# Altium footprint library CANDLE-LIB.PcbLib: 28 footprints (part 1 of 2)
Each footprint in its own frame and in the unit in brackets; x right, y up, seen from the top. Pads: shape width x height; smd on the part's side, far side on the other; paste and mask are expansions set on the pad; w line width, h text height; cw(c..) or ccw(c..) is an arc to the next point about the centre after c.
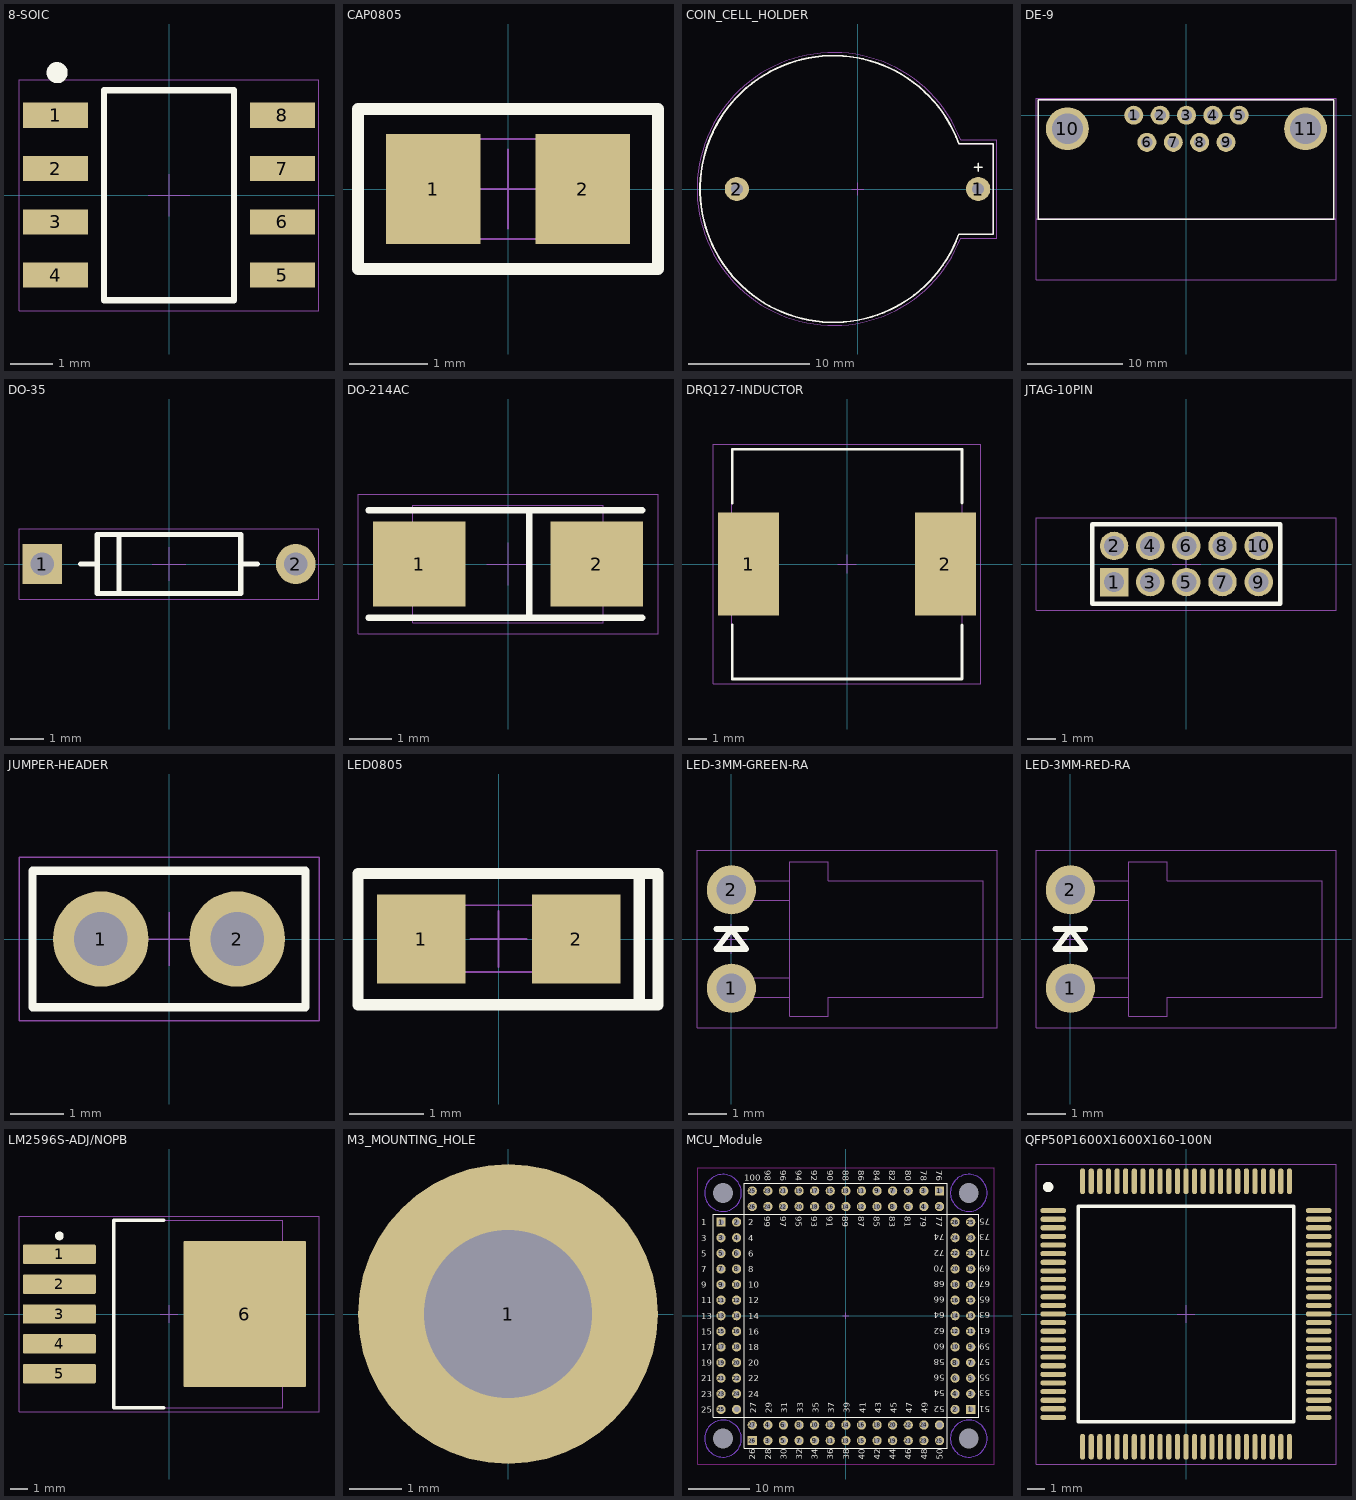
[diagram p0: the footprints below, top view; thin cyan lines are the x and y axes]

## 8-SOIC [mm]
pads (8):
  rect 1.55x0.6 smd: 1(-2.7,1.905) 2(-2.7,0.635) 3(-2.7,-0.635) 4(-2.7,-1.905) 5(2.7,-1.905) 6(2.7,-0.635) 7(2.7,0.635) 8(2.7,1.905)
Top Overlay:
  circle w0.25: c-2.667,2.921 r0.125
  lines w0.152: -1.55,-2.5 1.55,-2.5 1.55,2.5 -1.55,2.5 -1.55,-2.5
Top Courtyard:
  lines w0.025: -3.575,-2.75 -3.575,2.75 ; -3.575,-2.75 3.575,-2.75 ; -3.575,-2.75 3.575,-2.75 ; -3.575,-2.75 -3.575,2.75 ; -3.575,2.75 3.575,2.75 ; -3.575,2.75 3.575,2.75 ; 3.575,-2.75 3.575,2.75 ; 3.575,-2.75 3.575,2.75
Top Designator:
  text ".Designator" at -2.252,-0.226 h1
Top Assembly:
  lines w0.025: -0.5,0 0.5,0 ; 0,-0.5 0,0.5 ; -1.55,-2.5 -1.55,2.5 1.55,2.5 1.55,-2.5 -1.55,-2.5
3D body "IC_Microchip_PIC16F15313T-I-SN_eec.STEP": height 0.25, standoff 0, extent -3.575,-2.75 3.575,2.75

## CAP0805 [mm] "Pasivo 0805"
height 0.7
pads (2):
  rect 1.2x1.4 smd: 1(-0.95,0) 2(0.95,0)
Top Overlay:
  lines w0.152: -1.905,-1.016 1.905,-1.016 1.905,1.016 -1.905,1.016 -1.905,-1.016
Top Courtyard:
  lines w0.025: -1.905,-1.016 -1.905,1.016 1.905,1.016 1.905,-1.016 -1.905,-1.016
Top Designator:
  text ".Designator" at -1.714,-0.172 h0.76
Top Assembly:
  lines w0.025: -0.5,0 0.5,0 ; 0,-0.5 0,0.5 ; -1.016,-0.635 1.009,-0.635 1.009,0.635 -1.016,0.635 -1.016,-0.635
3D body "User Library-Chip Cap_MLCC_0805 (2012)_B.step": height 0.8, standoff 0, extent -1,-0.63 1,0.62

## COIN_CELL_HOLDER [mm] "BH-25C-1"
pads (2):
  round 2 hole 1: 1(10,0) 2(-10,0)
Top Overlay:
  lines w0.152: 9.7,1.8 10.3,1.8 ; 10,1.5 10,2.1 ; 11.25,-3.75 11.25,3.75 ; 11.25,-3.75 8.396,-3.75 11.25,-3.75 ; 11.25,-3.75 11.25,3.75 ; 11.25,3.75 8.383,3.75 11.25,3.75 ; 8.383,3.78 ccw(c-2,0) 8.394,-3.749 cw(c-2,0) 8.383,3.78
Top Courtyard:
  lines w0.025: 8.548,-4.064 cw(c-2,0) 8.548,4.064 11.557,4.064 11.557,-4.064 8.548,-4.064
Top Designator:
  text ".Designator" at -3.434,-0.345 h1.52
Top Assembly:
  lines w0.025: 11.25,-3.75 8.396,-3.75 11.25,-3.75 ; 11.25,-3.75 11.25,3.75 ; 11.25,-3.75 11.25,3.75 ; 11.25,3.75 8.383,3.75 11.25,3.75 ; 8.383,3.78 ccw(c-2,0) 8.394,-3.749 cw(c-2,0) 8.383,3.78
  lines w0.1: -0.5,0 0.5,0 ; 0,-0.5 0,0.5
3D body "XB-02-A1AK001.step": height 8.77, standoff -4.2, extent -13.05,-11.05 11.25,11.05

## DE-9 [mm]
pads (11):
  round 2 hole 1.2: 1(-5.537,0) 2(-2.769,0) 3(0,0) 4(2.769,0) 5(5.537,0) 6(-4.153,-2.845) 7(-1.384,-2.845) 8(1.384,-2.845) 9(4.153,-2.845)
  round 4.5 hole 3.25 unplated: 10(-12.497,-1.422) 11(12.497,-1.422)
Top Overlay:
  lines w0.152: -15.545,-10.922 -15.545,1.6 15.443,1.6 15.443,-10.922 -15.545,-10.922
Top Courtyard:
  lines w0.025: -15.799,-17.272 15.697,-17.272 15.697,1.778 -15.799,1.778 -15.799,-17.272
  lines w0.152: -15.799,-10.922 15.697,-10.922
Top Designator:
  text ".Designator" at -3.434,-0.345 h1.52
Top Assembly:
  lines w0.025: -15.545,-10.922 -15.545,1.6 15.443,1.6 15.443,-10.922 -15.545,-10.922
  lines w0.1: -0.5,0 0.5,0 ; 0,-0.5 0,0.5
3D body "182-009-113.STEP": height 12.55, standoff -3.17, extent -15.456,-16.967 15.354,1.524

## DO-35 [mm]
pads (2):
  rect 1.2x1.2 hole 0.7: 1(-3.813,0)
  round 1.2 hole 0.7: 2(3.813,0)
Top Overlay:
  lines w0.152: -2.667,0 -2.159,0 ; -1.5,-0.855 -1.5,0.855 ; 2.159,0 2.667,0 ; -2.159,-0.889 2.159,-0.889 2.159,0.889 -2.159,0.889 -2.159,-0.889
Top Courtyard:
  lines w0.025: -4.513,-1.055 4.513,-1.055 4.513,1.055 -4.513,1.055 -4.513,-1.055
Top Designator:
  text ".Designator" at -2.252,-0.226 h1
Top Assembly:
  lines w0.025: -0.5,0 0.5,0 ; 0,-0.5 0,0.5 ; -2.159,-0.889 -2.159,0.889 ; -2.159,-0.889 -2.159,0.889 ; -2.159,-0.889 2.159,-0.889 2.159,0.889 -2.159,0.889
3D body "Diode_ON_Semiconductor_1N5245BTR_eec.STEP": height 0.25, standoff 0, extent -4.513,-1.055 4.513,1.055

## DO-214AC [mm] "DO-214AC, 2-Leads, Body 4.5x2.79mm, IPC Low Density"
height 2.29
pads (2):
  rect 2.2x2 smd: 1(-2.1,0) 2(2.1,0)
Top Overlay:
  lines w0.152: -3.302,-1.27 3.175,-1.27 ; -3.302,1.27 3.175,1.27 ; 0.508,-1.27 0.508,1.27
Top Courtyard:
  lines w0.025: -3.55,-1.651 -3.55,1.651 3.55,1.651 3.55,-1.651 -3.55,-1.651
Top Designator:
  text ".Designator" at -1.714,-0.172 h0.76
Top Assembly:
  lines w0.025: -0.5,0 0.5,0 ; 0,-0.5 0,0.5 ; -2.25,-1.395 -2.25,1.395 2.25,1.395 2.25,-1.395 -2.25,-1.395
3D body: height 2.29, standoff 0, extent -2.25,-1.395 2.25,1.395

## DRQ127-INDUCTOR [mil]
pads (2):
  rect 130x220 smd: 1(-210,0) 2(210,0)
Top Overlay:
  lines w6: -245,-130 -245,-245 245,-245 245,-130 ; -245,130 -245,245 245,245 245,130
Top Courtyard:
  lines w1: -285,-255 285,-255 285,255 -285,255 -285,-255
Top Designator:
  text ".Designator" at -135.2,-13.57 h60
Top Assembly:
  lines w1: -19.68,0 19.68,0 ; 0,-19.69 0,19.68 ; -246.07,-246.06 -246.07,246.07 246.06,246.07 246.06,-246.06 -246.07,-246.06
3D body "User Library-DRQ127_12_5x12_5.step": height 316.28, standoff 1.31, extent -246.07,-246.06 246.06,246.07

## JTAG-10PIN [mm] "10 pin JTAG header with male connector"
pads (10):
  rect 1x1 hole 0.7: 1(-2.54,-0.635)
  round 1 hole 0.7: 2(-2.54,0.635) 3(-1.27,-0.635) 4(-1.27,0.635) 5(0,-0.635) 6(0,0.635) 7(1.27,-0.635) 8(1.27,0.635) 9(2.54,-0.635) 10(2.54,0.635)
Top Overlay:
  lines w0.152: -3.302,-1.397 3.302,-1.397 3.302,1.397 -3.302,1.397 -3.302,-1.397
Top Courtyard:
  lines w0.025: -5.282,-1.625 5.258,-1.625 5.258,1.625 -5.282,1.625 -5.282,-1.625
Top Designator:
  text ".Designator" at -1.714,-0.187 h0.76
Top Assembly:
  lines w0.025: -0.5,-0.015 0.5,-0.015 ; 0,-0.515 0,0.485 ; -3.302,-1.397 -3.302,1.397 3.302,1.397 3.302,-1.397 -3.302,-1.397
3D body "2x5_50mils.step": height 5.48, standoff -2.17, extent -5.282,-1.625 5.258,1.625

## JUMPER-HEADER [mil]
pads (2):
  round 70 hole 39.37: 1(-50,0) 2(50,0)
Top Overlay:
  lines w6: -100,-50 100,-50 100,50 -100,50 -100,-50
Top Courtyard:
  lines w1: -110,-60 110,-60 110,60 -110,60 -110,-60
Top Designator:
  text ".Designator" at -88.67,-8.9 h39.37
Top Assembly:
  lines w1: -19.68,0 19.68,0 ; 0,-19.69 0,19.68 ; -100,-50 100,-50 100,50 -100,50 -100,-50
3D body "User Library-Mini Jumper.step": height 635.83, standoff 104.33, extent -99.41,-50 99.41,44.1
3D body "User Library-HEADER 1x1 Pitch 2_54x2_54.step": height 329.92, standoff -114.96, extent 0,-50 100,50
3D body "User Library-HEADER 1x1 Pitch 2_54x2_54.step": height 329.92, standoff -114.96, extent -100,-50 0,50

## LED0805 [mm] "LED SMD 0805"
height 0.7
pads (2):
  rect 1.2x1.2 smd: 1(-1.05,0) 2(1.05,0)
Top Overlay:
  lines w0.152: 1.905,-0.889 2.159,-0.889 2.159,0.889 1.905,0.889 ; 1.905,-0.889 1.905,0.889 ; 1.905,-0.889 -1.905,-0.889 -1.905,0.889 1.905,0.889
Top Courtyard:
  lines w0.025: -1.905,-0.889 -1.905,0.889 1.905,0.889 1.905,-0.889 -1.905,-0.889
Top Designator:
  text ".Designator" at -1.714,-0.172 h0.76
Top Assembly:
  lines w0.025: -0.381,0 0.381,0 ; 0,-0.381 0,0.381 ; -1.031,-0.449 -1.031,0.457 1.031,0.457 1.031,-0.449 -1.031,-0.449
3D body "LED0805.step": height 0.85, standoff 0.01, extent -1.031,-0.449 1.031,0.457

## LED-3MM-GREEN-RA [mil] "LED 3mm Right Angle"
pads (2):
  round 50 hole 30 mask+0: 1(0,-50) 2(0,50)
Top Overlay:
  lines w6: -15,10 15,10 ; -15,-10 0,10 15,-10 -15,-10
Top Courtyard:
  lines w1: -35,-90 -35,90 270,90 270,-90 -35,-90
Top Designator:
  text ".Designator" at -67.48,-6.77 h30
Top Assembly:
  lines w1: -15,0 15,0 ; 0,-15 0,15 ; 59.06,-59.06 -9.84,-59.06 -9.84,-39.37 59.06,-39.37 ; 59.06,39.37 -9.84,39.37 -9.84,59.06 59.06,59.06 ; 59.06,-78.74 98.43,-78.74 98.43,-59.06 255.91,-59.06 255.91,59.06 98.43,59.06 98.43,78.74 59.06,78.74 59.06,-78.74
3D body "LED_3mm_clear_recentered.stp": height 0, standoff 0, extent 335,-15 335,-15
3D body "LED_3mm_green.step": height 164.73, standoff -71.49, extent -9.56,-78.74 256.19,78.74

## LED-3MM-RED-RA [mil] "LED 3mm Right Angle"
pads (2):
  round 50 hole 30 mask+0: 1(0,-50) 2(0,50)
Top Overlay:
  lines w6: -15,10 15,10 ; -15,-10 15,-10 0,10 -15,-10
Top Courtyard:
  lines w1: -35,-90 270,-90 270,90 -35,90 -35,-90
Top Designator:
  text ".Designator" at -67.48,-6.77 h30
Top Assembly:
  lines w1: -15,0 15,0 ; 0,-15 0,15 ; 59.06,-59.06 -9.84,-59.06 -9.84,-39.37 59.06,-39.37 ; 59.06,39.37 -9.84,39.37 -9.84,59.06 59.06,59.06 ; 59.06,-78.74 59.06,78.74 98.43,78.74 98.43,59.06 255.91,59.06 255.91,-59.06 98.43,-59.06 98.43,-78.74 59.06,-78.74
3D body "LED_3mm_clear_recentered.stp": height 0, standoff 0, extent 335,-15 335,-15
3D body "LED_3mm_red.step": height 164.73, standoff -71.49, extent -9.56,-78.74 256.19,78.74

## LM2596S-ADJ/NOPB [mm] "DPAK, 5-Leads, Body 10.65x9.65mm, Pitch 1.7mm, IPC Medium Density"
height 4.83
pads (6):
  rrect10% 4.15x1.1 smd: 1(-6.25,3.4) 2(-6.25,1.7) 3(-6.25,0) 4(-6.25,-1.7) 5(-6.25,-3.4)
  rrect2% 7x8.33 smd: 6(4.318,0)
Top Overlay:
  circle w0.25: c-6.25,4.45 r0.125
  lines w0.2: -0.3,-5.35 -3.15,-5.35 -3.15,5.35 -0.3,5.35
Top Courtyard:
  lines w0.025: -8.55,-5.575 8.55,-5.575 8.55,5.575 -8.55,5.575 -8.55,-5.575
Top Designator:
  text ".Designator" at -3.434,-0.345 h1.52
Top Assembly:
  lines w0.025: -0.5,0 0.5,0 ; 0,-0.5 0,0.5 ; -3.175,-5.334 6.477,-5.334 6.477,5.334 -3.175,5.334 -3.175,-5.334
3D body: height 4.83, standoff 0, extent -3.15,-5.325 6.5,5.325

## M3_MOUNTING_HOLE [mm]
pads (1):
  round 5.7 hole 3.2: 1(0,0)

## MCU_Module [mm]
pads (108):
  round 0 hole 3.25: 0(-20,-20) 0(-20,20) 0(20,-20) 0(20,20)
  rect 1.5x1.5 hole 0.9: 1(-20.32,15.24) 1(15.24,20.32) 1(20.32,-15.24) 26(-15.24,-20.32)
  round 1.5 hole 0.9: 2(-17.78,15.24) 2(15.24,17.78) 2(17.78,-15.24) 3(-20.32,12.7) 3(-12.7,-20.32) 3(12.7,20.32) 3(20.32,-12.7) 4(-17.78,12.7) 4(-12.7,-17.78) 4(12.7,17.78) 4(17.78,-12.7) 5(-20.32,10.16) 5(-10.16,-20.32) 5(10.16,20.32) 5(20.32,-10.16) 6(-17.78,10.16) 6(-10.16,-17.78) 6(10.16,17.78) 6(17.78,-10.16) 7(-20.32,7.62) 7(-7.62,-20.32) 7(7.62,20.32) 7(20.32,-7.62) 8(-17.78,7.62) 8(-7.62,-17.78) 8(7.62,17.78) 8(17.78,-7.62) 9(-20.32,5.08) 9(-5.08,-20.32) 9(5.08,20.32) 9(20.32,-5.08) 10(-17.78,5.08) 10(-5.08,-17.78) 10(5.08,17.78) 10(17.78,-5.08) 11(-20.32,2.54) 11(-2.54,-20.32) 11(2.54,20.32) 11(20.32,-2.54) 12(-17.78,2.54) 12(-2.54,-17.78) 12(2.54,17.78) 12(17.78,-2.54) 13(-20.32,0) 13(0,-20.32) 13(0,20.32) 13(20.32,0) 14(-17.78,0) 14(0,-17.78) 14(0,17.78) 14(17.78,0) 15(-20.32,-2.54) 15(-2.54,20.32) 15(2.54,-20.32) 15(20.32,2.54) 16(-17.78,-2.54) 16(-2.54,17.78) 16(2.54,-17.78) 16(17.78,2.54) 17(-20.32,-5.08) 17(-5.08,20.32) 17(5.08,-20.32) 17(20.32,5.08) 18(-17.78,-5.08) 18(-5.08,17.78) 18(5.08,-17.78) 18(17.78,5.08) 19(-20.32,-7.62) 19(-7.62,20.32) 19(7.62,-20.32) 19(20.32,7.62) 20(-17.78,-7.62) 20(-7.62,17.78) 20(7.62,-17.78) 20(17.78,7.62) 21(-20.32,-10.16) 21(-10.16,20.32) 21(10.16,-20.32) 21(20.32,10.16) 22(-17.78,-10.16) 22(-10.16,17.78) 22(10.16,-17.78) 22(17.78,10.16) 23(-20.32,-12.7) 23(-12.7,20.32) 23(12.7,-20.32) 23(20.32,12.7) 24(-17.78,-12.7) 24(-12.7,17.78) 24(12.7,-17.78) 24(17.78,12.7) 25(-20.32,-15.24) 25(-15.24,20.32) 25(15.24,-20.32) 25(20.32,15.24) 26(-15.24,17.78) 26(17.78,15.24) 27(-15.24,-17.78) ""(-17.78,-15.24) ""(15.24,-17.78)
Bottom Layer keep-out:
  circle w0.15: c20,-20 r3
  circle w0.15: c20,20 r3
  circle w0.15: c-20,20 r3
  circle w0.15: c-20,-20 r3
Top Overlay:
  lines w0.2: -16.51,-16.51 -21.59,-16.51 -21.59,16.51 -16.51,16.51 ; -16.51,-16.51 -16.51,16.51 ; -16.51,-16.51 -16.51,-21.59 16.51,-21.59 16.51,-16.51 ; -16.51,-16.51 16.51,-16.51 ; -16.51,16.51 -16.51,21.59 16.51,21.59 16.51,16.51 ; -16.51,16.51 16.51,16.51 ; 16.51,-16.51 21.59,-16.51 21.59,16.51 16.51,16.51 ; 16.51,-16.51 16.51,16.51
  text "49" at 13.36,-15.9 h1
  text "47" at 10.82,-15.9 h1
  text "50" at 15.76,-23.4 h1
  text "48" at 13.22,-23.4 h1
  text "46" at 10.68,-23.4 h1
  text "45" at 8.28,-15.9 h1
  text "44" at 8.14,-23.4 h1
  text "43" at 5.74,-15.9 h1
  text "42" at 5.6,-23.4 h1
  text "41" at 3.2,-15.9 h1
  text "40" at 3.06,-23.4 h1
  text "39" at 0.66,-15.9 h1
  text "38" at 0.52,-23.4 h1
  text "37" at -1.88,-15.9 h1
  text "36" at -2.02,-23.4 h1
  text "35" at -4.42,-15.9 h1
  text "34" at -4.56,-23.4 h1
  text "33" at -6.96,-15.9 h1
  text "32" at -7.1,-23.4 h1
  text "31" at -9.5,-15.9 h1
  text "30" at -9.64,-23.4 h1
  text "28" at -12.18,-23.4 h1
  text "27" at -14.58,-15.9 h1
  text "1" at -23.5,14.7 h1
  text "25" at -23.5,-15.78 h1
  text "24" at -15.9,-13.24 h1
  text "23" at -23.5,-13.24 h1
  text "22" at -15.9,-10.7 h1
  text "21" at -23.5,-10.7 h1
  text "20" at -15.9,-8.16 h1
  text "19" at -23.5,-8.16 h1
  text "18" at -15.9,-5.62 h1
  text "17" at -23.5,-5.62 h1
  text "16" at -15.9,-3.08 h1
  text "15" at -23.5,-3.08 h1
  text "14" at -15.9,-0.54 h1
  text "13" at -23.5,-0.54 h1
  text "12" at -15.9,2 h1
  text "11" at -23.5,2 h1
  text "10" at -15.9,4.54 h1
  text "9" at -23.5,4.54 h1
  text "8" at -15.9,7.08 h1
  text "7" at -23.5,7.08 h1
  text "6" at -15.9,9.62 h1
  text "5" at -23.5,9.62 h1
  text "4" at -15.9,12.16 h1
  text "3" at -23.5,12.16 h1
  text "2" at -15.9,14.7 h1
  text "76" at 14.72,23.7 h1
  text "77" at 14.68,16.2 h1
  text "78" at 12.18,23.7 h1
  text "79" at 12.14,16.2 h1
  text "80" at 9.64,23.7 h1
  text "81" at 9.6,16.2 h1
  text "82" at 7.1,23.7 h1
  text "83" at 7.06,16.2 h1
  text "84" at 4.56,23.7 h1
  text "85" at 4.52,16.2 h1
  text "86" at 2.02,23.7 h1
  text "87" at 1.98,16.2 h1
  text "88" at -0.52,23.7 h1
  text "89" at -0.56,16.2 h1
  text "90" at -3.06,23.7 h1
  text "91" at -3.1,16.2 h1
  text "92" at -5.6,23.7 h1
  text "93" at -5.64,16.2 h1
  text "94" at -8.14,23.7 h1
  text "95" at -8.18,16.2 h1
  text "96" at -10.68,23.7 h1
  text "97" at -10.72,16.2 h1
  text "98" at -13.22,23.7 h1
  text "99" at -13.26,16.2 h1
  text "100" at -16.5,22 h1
  text "52" at 16.1,-14.7 h1
  text "53" at 23.5,-12.16 h1
  text "54" at 16.1,-12.16 h1
  text "55" at 23.5,-9.62 h1
  text "56" at 16.1,-9.62 h1
  text "57" at 23.5,-7.08 h1
  text "58" at 16.1,-7.08 h1
  text "59" at 23.5,-4.54 h1
  text "60" at 16.1,-4.54 h1
  text "61" at 23.5,-2 h1
  text "62" at 16.1,-2 h1
  text "63" at 23.5,0.54 h1
  text "64" at 16.1,0.54 h1
  text "65" at 23.5,3.08 h1
  text "66" at 16.1,3.08 h1
  text "67" at 23.5,5.62 h1
  text "68" at 16.1,5.62 h1
  text "69" at 23.5,8.16 h1
  text "70" at 16.1,8.16 h1
  text "71" at 23.5,10.7 h1
  text "72" at 16.1,10.7 h1
  text "73" at 23.5,13.24 h1
  text "74" at 16.1,13.24 h1
  text "75" at 23.5,15.78 h1
  text "51" at 23.5,-14.7 h1
  text "29" at -12.04,-15.9 h1
  text "26" at -14.72,-23.4 h1
Bottom Overlay:
  lines w0.15: -7.6,-5.43 -7.2,-5.43 ; -7.6,-4.63 -7.2,-4.63 ; -7.6,-3.83 -7.2,-3.83 ; -7.6,-3.03 -7.2,-3.03 ; -7.6,-0.83 -7.2,-0.83 ; -7.6,-0.03 -7.2,-0.03 ; -7.6,0.77 -7.2,0.77 ; -7.6,1.57 -7.2,1.57 ; -7.6,2.87 -7.2,2.87 ; -7.6,3.67 -7.2,3.67 ; -5.7,-7.63 -5.7,-7.23 ; -4.9,-7.63 -4.9,-7.23 ; -4.1,-7.63 -4.1,-7.23 ; -3.3,-7.63 -3.3,-7.23 ; -0.9,7.17 -0.9,7.57 ; -0.1,7.17 -0.1,7.57 ; 0.4,-7.73 0.4,-7.33 ; 1.2,-7.73 1.2,-7.33 ; 4.5,-5.9 4.9,-5.9 ; 4.5,-5.1 4.9,-5.1 ; 7.1,-0.93 7.5,-0.93 ; 7.1,-0.13 7.5,-0.13 ; 7.1,6.17 7.5,6.17 ; 7.1,6.97 7.5,6.97
Keep-Out Layer:
  lines w0.2: -24.13,-24.13 -24.13,24.13 24.13,24.13 24.13,-24.13 -24.13,-24.13
Top Designator:
  text ".Designator" at -3.434,-0.345 h1.52
Top Assembly:
  lines w0.025: -0.5,0 0.5,0 ; 0,-0.5 0,0.5

## QFP50P1600X1600X160-100N [mm] "QFP,0.50mm pitch,square;100 pin,14.00mm L X 14.00mm W X 1.60mm H body"
height 1.6
pads (100):
  oval 1.5x0.3 smd: 1(-7.7,6) 2(-7.7,5.5) 3(-7.7,5) 4(-7.7,4.5) 5(-7.7,4) 6(-7.7,3.5) 7(-7.7,3) 8(-7.7,2.5) 9(-7.7,2) 10(-7.7,1.5) 11(-7.7,1) 12(-7.7,0.5) 13(-7.7,0) 14(-7.7,-0.5) 15(-7.7,-1) 16(-7.7,-1.5) 17(-7.7,-2) 18(-7.7,-2.5) 19(-7.7,-3) 20(-7.7,-3.5) 21(-7.7,-4) 22(-7.7,-4.5) 23(-7.7,-5) 24(-7.7,-5.5) 25(-7.7,-6) 51(7.7,-6) 52(7.7,-5.5) 53(7.7,-5) 54(7.7,-4.5) 55(7.7,-4) 56(7.7,-3.5) 57(7.7,-3) 58(7.7,-2.5) 59(7.7,-2) 60(7.7,-1.5) 61(7.7,-1) 62(7.7,-0.5) 63(7.7,0) 64(7.7,0.5) 65(7.7,1) 66(7.7,1.5) 67(7.7,2) 68(7.7,2.5) 69(7.7,3) 70(7.7,3.5) 71(7.7,4) 72(7.7,4.5) 73(7.7,5) 74(7.7,5.5) 75(7.7,6)
  oval 0.3x1.5 smd: 26(-6,-7.7) 27(-5.5,-7.7) 28(-5,-7.7) 29(-4.5,-7.7) 30(-4,-7.7) 31(-3.5,-7.7) 32(-3,-7.7) 33(-2.5,-7.7) 34(-2,-7.7) 35(-1.5,-7.7) 36(-1,-7.7) 37(-0.5,-7.7) 38(0,-7.7) 39(0.5,-7.7) 40(1,-7.7) 41(1.5,-7.7) 42(2,-7.7) 43(2.5,-7.7) 44(3,-7.7) 45(3.5,-7.7) 46(4,-7.7) 47(4.5,-7.7) 48(5,-7.7) 49(5.5,-7.7) 50(6,-7.7) 76(6,7.7) 77(5.5,7.7) 78(5,7.7) 79(4.5,7.7) 80(4,7.7) 81(3.5,7.7) 82(3,7.7) 83(2.5,7.7) 84(2,7.7) 85(1.5,7.7) 86(1,7.7) 87(0.5,7.7) 88(0,7.7) 89(-0.5,7.7) 90(-1,7.7) 91(-1.5,7.7) 92(-2,7.7) 93(-2.5,7.7) 94(-3,7.7) 95(-3.5,7.7) 96(-4,7.7) 97(-4.5,7.7) 98(-5,7.7) 99(-5.5,7.7) 100(-6,7.7)
Top Overlay:
  circle w0.406: c-8.001,7.366 r0.1
  lines w0.2: -6.25,-6.25 -6.25,6.25 6.25,6.25 6.25,-6.25 -6.25,-6.25
Top Courtyard:
  lines w0.05: -8.7,-8.7 8.7,-8.7 8.7,8.7 -8.7,8.7 -8.7,-8.7
Top Designator:
  text ".Designator" at -3.434,-0.345 h1.52
Top Assembly:
  lines w0.025: -0.5,0 0.5,0 ; 0,-0.5 0,0.5 ; -6.223,-6.223 -6.223,6.223 6.223,6.223 6.223,-6.223 -6.223,-6.223
3D body: height 1.6, standoff 0, extent -7,-7 7,7